# Altium footprint library CHRY_MXXX-XXXW_MA.PcbLib: 2 footprints
Each footprint in its own frame and in the unit in brackets; x right, y up, seen from the top. Pads: shape width x height; smd on the part's side, far side on the other; paste and mask are expansions set on the pad; w line width, h text height; cw(c..) or ccw(c..) is an arc to the next point about the centre after c.
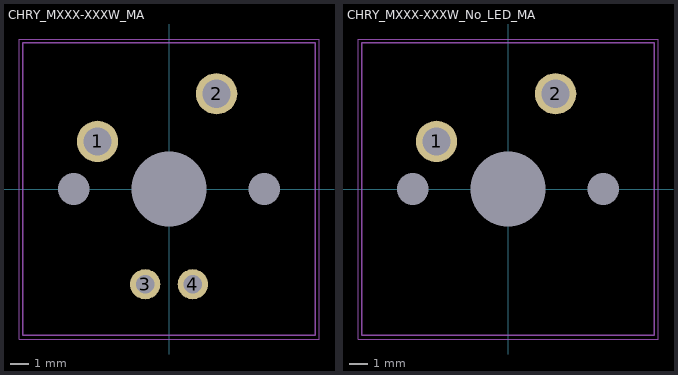
[diagram p0: the footprints below, top view; thin cyan lines are the x and y axes]

## CHRY_MXXX-XXXW_MA [mm]
pads (7):
  round 0 hole 1.702 unplated: 0(-5.08,0) 0(5.08,0)
  round 0 hole 3.988 unplated: 0(0,0)
  round 2.2 hole 1.499: 1(-3.81,2.54) 2(2.54,5.08)
  round 1.61 hole 0.991: 3(-1.27,-5.08) 4(1.27,-5.08)
Top Assembly (Mech13):
  lines w0.1: -7.8,-7.8 7.8,-7.8 7.8,7.8 -7.8,7.8 -7.8,-7.8
Top Courtyard:
  lines w0.05: -0.5,0 0.5,0 ; 0,-0.5 0,0.5 ; -8,-8 -8,8 8,8 8,-8 -8,-8
3D body "MX .STEP": height 15.51, standoff -3.39, extent -7.8,-7.8 7.8,7.8

## CHRY_MXXX-XXXW_No_LED_MA [mil]
pads (5):
  round 0 hole 67 unplated: 0(-200,0) 0(200,0)
  round 0 hole 157 unplated: 0(0,0)
  round 86.61 hole 59: 1(-150,100) 2(100,200)
Top Assembly (Mech13):
  lines w3.94: -307.09,-307.09 307.09,-307.09 307.09,307.09 -307.09,307.09 -307.09,-307.09
Top Courtyard:
  lines w1.97: -19.68,0 19.68,0 ; 0,-19.68 0,19.68 ; -314.96,-314.96 -314.96,314.96 314.96,314.96 314.96,-314.96 -314.96,-314.96
3D body "MX .STEP": height 610.75, standoff -133.35, extent -307.08,-307.09 307.09,307.09